# EAGLE library part P093N (library pot-tt_electronics)
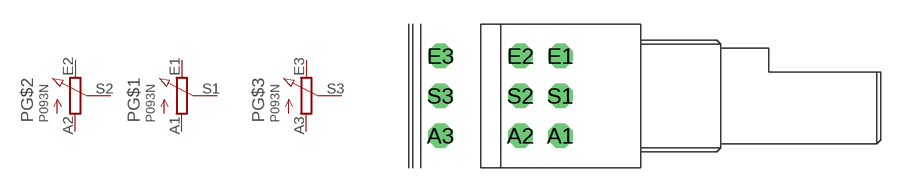
[diagram p2: symbol with the pads of P093N; footprint P093N]

Designator prefix P; gates G$1=POT_EU- G$2=POT_EU- G$3=POT_EU-

## P093N  [P093N]
A1  G$1:A  pas
A2  G$2:A  pas
A3  G$3:A  pas
E1  G$1:E  pas
E2  G$2:E  pas
E3  G$3:E  pas
S1  G$1:S  pas
S2  G$2:S  pas
S3  G$3:S  pas

## Footprint P093N (pad centres in mm)
drill 1 octagon: A1 -5,-2.5; A2 -7.5,-2.5; A3 -12.5,-2.5; E1 -5,2.5; E2 -7.5,2.5; E3 -12.5,2.5; S1 -5,0; S2 -7.5,0; S3 -12.5,0